# Altium schematic symbol library SCH - Regulators - PAM2306AYPKE.SchLib: 1 symbol
Pins are listed as number, name and electrical type; pins without a type are passive.

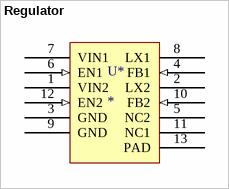
[diagram p0: symbol Regulator]

## Regulator
designator U*
pins: 1 VIN2 (power), 2 LX2 (power), 3 GND (power), 4 FB1 (in), 5 NC2 (power), 6 EN1 (in), 7 VIN1 (power), 8 LX1 (power), 9 GND (power), 10 FB2 (in), 11 NC1 (power), 12 EN2 (in), 13 PAD (power)